# EAGLE library part 20PIN_HEADER (library WallerLabLib)
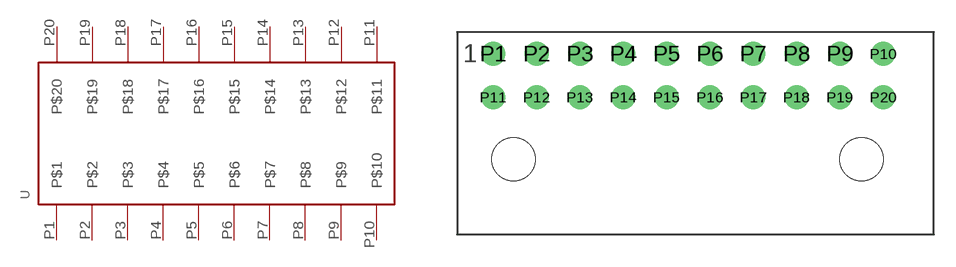
[diagram p9: symbol with the pads of 20PIN_3MMHEADER; footprint 20PIN_3MMHEADER]

Designator prefix -

## 20PIN_HEADER  [20PIN_3MMHEADER]
P1  P$1
P2  P$2
P3  P$3
P4  P$4
P5  P$5
P6  P$6
P7  P$7
P8  P$8
P9  P$9
P10  P$10
P11  P$11
P12  P$12
P13  P$13
P14  P$14
P15  P$15
P16  P$16
P17  P$17
P18  P$18
P19  P$19
P20  P$20

## Footprint 20PIN_3MMHEADER (pad centres in mm)
drill 1.1: P1 -13.5,1.5; P2 -10.5,1.5; P3 -7.5,1.5; P4 -4.5,1.5; P5 -1.5,1.5; P6 1.5,1.5; P7 4.5,1.5; P8 7.5,1.5; P9 10.5,1.5; P10 13.5,1.5; P11 -13.5,-1.5; P12 -10.5,-1.5; P13 -7.5,-1.5; P14 -4.5,-1.5; P15 -1.5,-1.5; P16 1.5,-1.5; P17 4.5,-1.5; P18 7.5,-1.5; P19 10.5,-1.5; P20 13.5,-1.5
hole 3 at 12,-5.8
hole 3 at -12.1,-5.8